# Altium footprint library adafruit.PCBLIB: 624 footprints (part 25 of 39)
Each footprint in its own frame and in the unit in brackets; x right, y up, seen from the top. Pads: shape width x height; smd on the part's side, far side on the other; paste and mask are expansions set on the pad; w line width, h text height; cw(c..) or ccw(c..) is an arc to the next point about the centre after c.
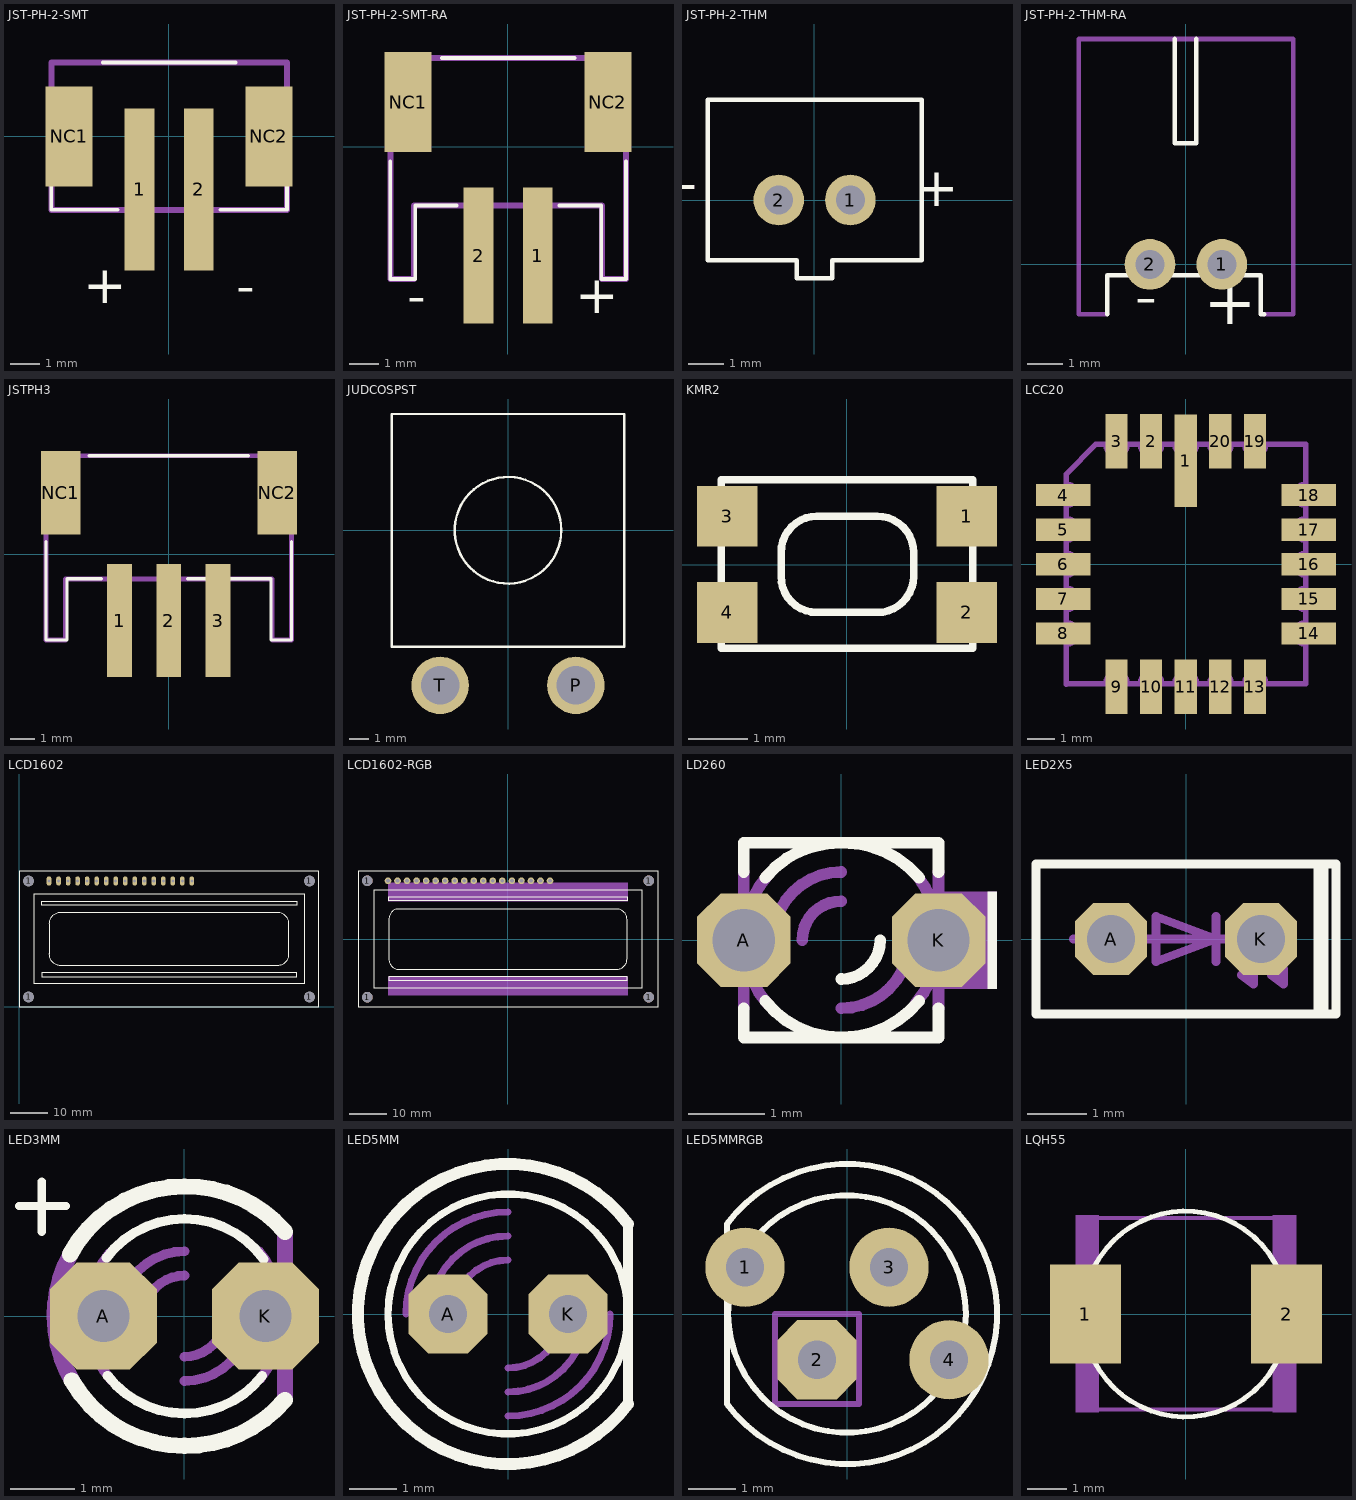
[diagram p24: the footprints below, top view; thin cyan lines are the x and y axes]

## JST-PH-2-SMT [mil]
pads (4):
  rect 40x217 smd: 1(-39.37,-70.87) 2(40,-70.87)
  rect 63x134 smd: NC1(-133.86,0) NC2(134,0)
Top Overlay:
  lines w5: -157.48,-19.68 -157.48,-98.43 -68.9,-98.43 ; -88.58,99 89,99 ; 69,-98.43 158,-98.43 158,-19.68
  text "+" at -114.72,-240 h86.8
  text "-" at 90,-240 h86.8
Mechanical 16:
  lines w8: -157.48,-98.43 -157.48,99 158,99 158,-98.43 -157.48,-98.43

## JST-PH-2-SMT-RA [mil]
pads (4):
  rect 40x182 smd: 1(40,-145.67) 2(-39.37,-145.67)
  rect 63x134 smd: NC1(-133.86,60) NC2(134,60)
Top Overlay:
  lines w5: -157.48,-19.68 -157.48,-177.17 -124.02,-177.17 -124.02,-78.74 -68.9,-78.74 ; -88.58,119 89,119 ; 69,-78.74 125,-78.74 125,-177.17 158,-177.17 158,-19.68
  text "+" at 90,-240 h86.8
  text "-" at -135,-240 h86.8
Mechanical 16:
  lines w8: -157.48,-177.17 -157.48,119 158,119 158,-177.17 126,-177.17 126,-78.74 -125.98,-78.74 -125.98,-177.17 -157.48,-177.17

## JST-PH-2-THM [mil]
pads (2):
  round 56 hole 32: 1(40,0) 2(-39.37,0)
Top Overlay:
  lines w5: -118.11,-66.93 -19.68,-66.93 -19.68,-86.61 20,-86.61 20,-66.93 119,-66.93 119,111 -118.11,111 -118.11,-66.93
  text "+" at 160,30 h42.5
  text "-" at -130,30 h42.5

## JST-PH-2-THM-RA [mil]
pads (2):
  round 56 hole 32: 1(40,0) 2(-39.37,0)
Top Overlay:
  lines w5: -86.61,-55.12 -86.61,-11.81 83,-11.81 83,-55.12 87,-55.12 ; -11.81,249 -11.81,134 12,134 12,249
  text "+" at 20,-82.52 h86.8
  text "-" at -56.26,-74.65 h86.8
Mechanical 16:
  lines w5: -86.61,-55.12 -118.11,-55.12 -118.11,249 119,249 119,-55.12 87,-55.12

## JSTPH3 [mil]
pads (5):
  rect 40x182 smd: 1(-78.74,-106.3) 2(0,-106.3) 3(79,-106.3)
  rect 63x134 smd: NC1(-173.23,99) NC2(174,99)
Top Overlay:
  lines w5: -196.85,20 -196.85,-137.8 -163.39,-137.8 -163.39,-39.37 -108.27,-39.37 ; -127.95,158 128,158 ; 30,-39.37 164,-39.37 164,-137.8 197,-137.8 197,20
Mechanical 16:
  lines w8: -196.85,-137.8 -196.85,158 197,158 197,-137.8 166,-137.8 166,-39.37 -165.35,-39.37 -165.35,-137.8 -196.85,-137.8

## JUDCOSPST [mil]
pads (2):
  round 118.5 hole 79: P(140,-320) T(-140,-320)
Top Overlay:
  circle w5: c0,0 r110
  lines w5: -240,-240 240,-240 240,240 -240,240 -240,-240

## KMR2 [mil]
pads (4):
  rect 40x40 smd: 1(79,32) 2(79,-31.5) 3(-78.74,32) 4(-78.74,-31.5)
Top Overlay:
  lines w5: -82.68,-55.12 83,-55.12 83,56 -82.68,56 -82.68,-55.12 ; -43.31,-7.87 ccw(c-19.68,-7.87) -19.69,-31.5 20,-31.5 ccw(c20.19,-7.68) 44,-7.87 44,8 ccw(c20,8) 20,32 -19.68,32 ccw(c-19.5,8.19) -43.31,8 -43.31,-7.87

## LCC20 [mil]
pads (20):
  rect 32x134 smd: 1(0,150)
  rect 32x79 smd: 2(-50,178) 3(-100,178) 9(-100,-177.17) 10(-50,-177.17) 11(0,-177.17) 12(50,-177.17) 13(100,-177.17) 19(100,178) 20(50,178)
  rect 79x32 smd: 4(-177.17,100) 5(-177.17,50) 6(-177.17,0) 7(-177.17,-50) 8(-177.17,-100) 14(178,-100) 15(178,-50) 16(178,0) 17(178,50) 18(178,100)
Mechanical 16:
  lines w8: -173.23,-173.62 -173.23,-173.23 ; -173.23,-115.75 -173.23,-173.23 ; -173.23,-84.25 -173.23,-65.75 ; -173.23,-34.25 -173.23,-15.75 ; -173.23,16 -173.23,35 ; -173.23,66 -173.23,85 ; -173.23,116 -173.23,130 -129.92,174 -115.75,174 ccw(c-100,174) -84.25,174 -65.75,174 ccw(c-50,174) -34.25,174 -15.75,174 ccw(c0.12,174) 16,174 35,174 ccw(c50.5,174) 66,174 85,174 ccw(c100.5,174) 116,174 174,174 174,116 ccw(c174,100.5) 174,85 174,66 ccw(c174,50.5) 174,35 174,16 ccw(c174,0.12) 174,-15.75 174,-34.25 ccw(c174,-50) 174,-65.75 174,-84.25 ccw(c174,-100) 174,-115.75 174,-173.23 116,-173.23 ; -173.17,-115.75 ccw(c-173.17,-100) -173.17,-84.25 ; -173.17,-65.75 ccw(c-173.17,-50) -173.17,-34.25 ; -173.17,-15.75 ccw(c-173.17,0.12) -173.17,16 ; -173.17,35 ccw(c-173.17,50.5) -173.17,66 ; -173.17,85 ccw(c-173.17,100.5) -173.17,116 ; -115.75,-173.23 -173.23,-173.23 ; -115.75,-173.17 cw(c-100,-173.17) -84.25,-173.17 ; -84.25,-173.23 -65.75,-173.23 ; -65.75,-173.17 cw(c-50,-173.17) -34.25,-173.17 ; -34.25,-173.23 -15.75,-173.23 ; -15.75,-173.17 cw(c0.12,-173.17) 16,-173.17 ; 16,-173.23 35,-173.23 ; 35,-173.17 cw(c50.5,-173.17) 66,-173.17 ; 66,-173.23 85,-173.23 ; 85,-173.17 cw(c100.5,-173.17) 116,-173.17

## LCD1602 [mil]
pads (20):
  round 111 hole 111: 1(100,100) 1(100,1318) 1(3050,100) 1(3050,1318)
  oval 48x96 hole 32: 1(315,1318) 2(415,1318) 3(515,1318) 4(615,1318) 5(715,1318) 6(815,1318) 7(915,1318) 8(1015,1318) 9(1115,1318) 10(1215,1318) 11(1315,1318) 12(1415,1318) 13(1515,1318) 14(1615,1318) 15(1715,1318) 16(1815,1318)
Top Overlay:
  lines w5: 0,0 3150,0 3150,1418 0,1418 0,0 ; 158,237 2993,237 2993,1182 158,1182 158,237 ; 237,315 2914,315 2914,355 237,355 237,315 ; 237,1063 2914,1063 2914,1103 237,1103 237,1063 ; 315,552 315,867 cw(c433.5,866.5) 434,985 2717,985 cw(c2717,867) 2835,867 2835,552 cw(c2717,552) 2717,434 434,434 cw(c433.5,552.5) 315,552

## LCD1602-RGB [mil]
pads (22):
  round 111 hole 111: 1(-1476.38,-610.24) 1(-1476.38,611) 1(1477,-610.24) 1(1477,611)
  round 70 hole 40: 1(-1259.84,611) 2(-1159.84,611) 3(-1059.84,611) 4(-959.84,611) 5(-859.84,611) 6(-759.84,611) 7(-659.84,611) 8(-559.84,611) 9(-459.84,611) 10(-359.84,611) 11(-259.84,611) 12(-159.84,611) 13(-59.84,611) 14(41,611) 15(141,611) 16(241,611) 17(341,611) 18(441,611)
Top Overlay:
  lines w5: -1574.8,-708.66 1575,-708.66 1575,709 -1574.8,709 -1574.8,-708.66 ; -1403.54,-517.72 1404,-517.72 1404,518 -1403.54,518 -1403.54,-517.72 ; -1250,-435.04 1250,-435.04 1250,-395.67 -1250,-395.67 -1250,-435.04 ; -1250,-198.82 -1250,197 cw(c-1144.46,209.46) -1156.93,315 1147,315 cw(c1139.5,204.5) 1250,197 1250,-198.82 cw(c1139.44,-206.37) 1147,-316.93 -1156.93,-316.93 cw(c-1144.41,-211.34) -1250,-198.82 ; -1250,403 1250,403 1250,443 -1250,443 -1250,403
Mechanical 10:
  rectangle: -1259.84,394 1260,591
  rectangle: -1259.84,-590.55 1260,-393.7

## LD260 [mil]
pads (2):
  oct 48x48 hole 32: A(-50,0) K(50,0)
Top Overlay:
  rectangle: 75,-25 80,25
  lines w6: -50,-35 -50,-50 50,-50 50,-35 ; -50,35 -50,50 50,50 50,35 ; -39.04,-31.24 ccw(c0,0) 0,-50 ccw(c0.48,1) 40,-31.24 ; -39.04,32 cw(c-0.8,0.38) 0,50 cw(c1.27,-0.61) 40,32 ; 0,-20 ccw(c0,0) 20,0
Mechanical 16:
  rectangle: 50,-25 80,25
  lines w6: -50,-35 -50,35 ; -37.96,-32.54 cw(c0,0) -50,0 cw(c0.62,0.23) -37.96,33 ; -35,0 cw(c0,0) 0,35 ; -20,0 cw(c0,0) 0,20 ; 0,-35 ccw(c0,0) 35,0 ; 38,-32.93 ccw(c0.18,-0.49) 50,0 ccw(c-1.07,1.31) 39,33 ; 50,-35 50,35

## LED2X5 [mil]
pads (2):
  oct 48x48 hole 32: A(-50,0) K(50,0)
Top Overlay:
  rectangle: 85,-50 95,50
  lines w6: -100,-50 100,-50 100,50 -100,50 -100,-50
Mechanical 16:
  lines w6: -75,0 20,0 ; 20,-15 20,0 ; 20,15 20,0 ; 35,-10 45,-30 ; 55,-10 65,-30 ; 70,0 20,0 ; 20,0 -20,15 -20,-15 20,0 ; 45,-30 45,-20 37,-24 45,-30 ; 65,-30 65,-20 57,-24 65,-30

## LED3MM [mil]
pads (2):
  oct 66x66 hole 32: A(-50,0) K(50,0)
Top Overlay:
  lines w5: -102,68 -73,68 ; -88,52 -88,83
  lines w6: -48,36 cw(c0,0) 0,60 cw(c0.21,-0.11) 49,35 ; -47.36,-36.83 ccw(c0,0) 0,-60 ccw(c0.32,0.65) 48,-36.83
  lines w10: -70.59,38 cw(c-0.29,0.18) 0,80 cw(c1.11,-0.19) 62,52 ; -69.46,-39.69 ccw(c0,0) 0,-80 ccw(c0.47,1) 62,-51.68
Mechanical 16:
  lines w6: -46.09,39 ccw(c0.82,0.3) -60,0 ccw(c0,0) -44.85,-39.86 ; -40,0 cw(c0,0) 0,40 ; -25,0 cw(c0,0) 0,25 ; 0,-40 ccw(c0,0) 40,0 ; 0,-25 ccw(c0,0) 25,0 ; 46,40 cw(c-1.07,1.08) 60,0 cw(c0.45,-1.25) 47,-38.41
  lines w10: -70.44,38 ccw(c0.14,0.04) -80,0 ccw(c0,0) -68.13,-41.93 ; 62,-50 62,50

## LED5MM [mil]
pads (2):
  oct 66x66 hole 32: A(-50,0) K(50,0)
Top Overlay:
  circle w6: c0,0 r100
  lines w8: 100,-75 100,75
  lines w10: 100,-75 cw(c0,0) 100,75
Mechanical 16:
  lines w6: -85,0 cw(c0,0) 0,85 ; -65,0 cw(c0,0) 0,65 ; -45,0 cw(c0,0) 0,45 ; 0,-85 ccw(c0,0) 85,0 ; 0,-65 ccw(c0,0) 65,0 ; 0,-45 ccw(c0,0) 45,0

## LED5MMRGB [mil]
pads (4):
  round 66 hole 32: 1(-85,39) 3(35,39) 4(85,-38.13)
  oct 66x66 hole 32: 2(-25,-38.13)
Top Overlay:
  circle w5: c0,0 r99
  lines w5: -100,-75 -100,75 cw(c0,0) -100,-75
Mechanical 2:
  lines w5: -60,-75 10,-75 10,0 -60,0 -60,-75

## LQH55 [mil]
pads (2):
  rect 71x99 smd: 1(-100.39,0) 2(101,0)
Top Overlay:
  circle w5: c0,0 r103
Mechanical 16:
  rectangle: -110.24,-98.43 -86.61,99
  rectangle: 87,-98.43 111,99
  lines w4: -107.28,-95.47 108,-95.47 ; -107.28,96 108,96